# Altium footprint library OmniVision.PcbLib: 1 footprints
Each footprint in its own frame and in the unit in brackets; x right, y up, seen from the top. Pads: shape width x height; smd on the part's side, far side on the other; paste and mask are expansions set on the pad; w line width, h text height; cw(c..) or ccw(c..) is an arc to the next point about the centre after c.
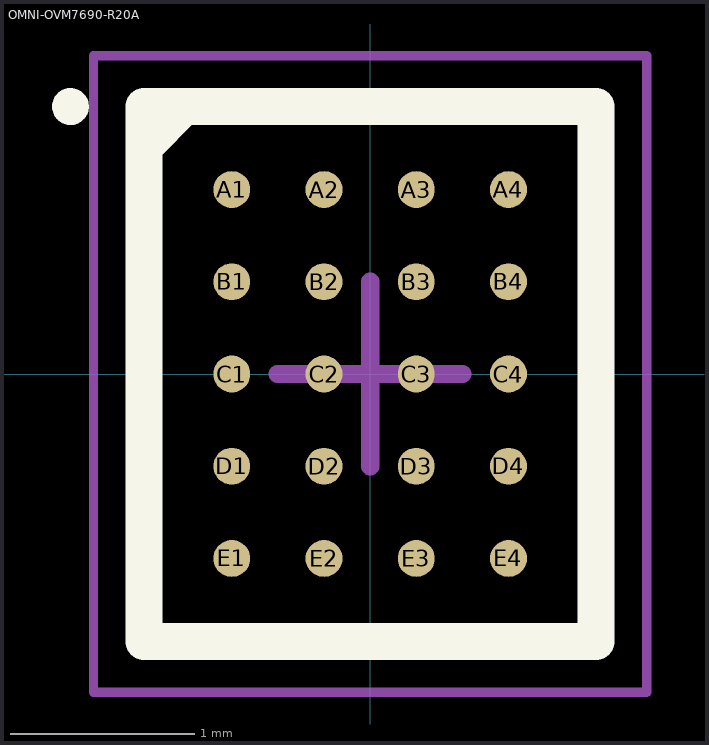
[diagram p0: the footprint, top view; thin cyan lines are the x and y axes]

## OMNI-OVM7690-R20A [mm] "BGA, 20-Leads, Body 2.47x2.92mmx0.81mm, Pitch 0.50mm"
height 0.81
pads (20):
  round 0.2 smd: A1(-0.75,1) A2(-0.25,1) A3(0.25,1) A4(0.75,1) B1(-0.75,0.5) B2(-0.25,0.5) B3(0.25,0.5) B4(0.75,0.5) C1(-0.75,0) C2(-0.25,0) C3(0.25,0) C4(0.75,0) D1(-0.75,-0.5) D2(-0.25,-0.5) D3(0.25,-0.5) D4(0.75,-0.5) E1(-0.75,-1) E2(-0.25,-1) E3(0.25,-1) E4(0.75,-1)
Top Overlay:
  circle w0.1: c-1.625,1.45 r0.05
  region: -1.007,1.45 -1.225,1.232 -1.225,1.45
  lines w0.2: -1.225,1.232 -1.007,1.45 ; -1.225,-1.45 -1.225,1.45 1.225,1.45 1.225,-1.45 -1.225,-1.45
Mechanical 13:
  lines w0.1: -1.235,-1.46 -1.235,1.46 1.235,1.46 1.235,-1.46 -1.235,-1.46
Mechanical 15:
  lines w0.05: -1.5,-1.725 -1.5,1.725 1.5,1.725 1.5,-1.725 -1.5,-1.725
  lines w0.1: -0.5,0 0.5,0 ; 0,-0.5 0,0.5